# Altium footprint library Heatsink.PcbLib: 1 footprints
Each footprint in its own frame and in the unit in brackets; x right, y up, seen from the top. Pads: shape width x height; smd on the part's side, far side on the other; paste and mask are expansions set on the pad; w line width, h text height; cw(c..) or ccw(c..) is an arc to the next point about the centre after c.
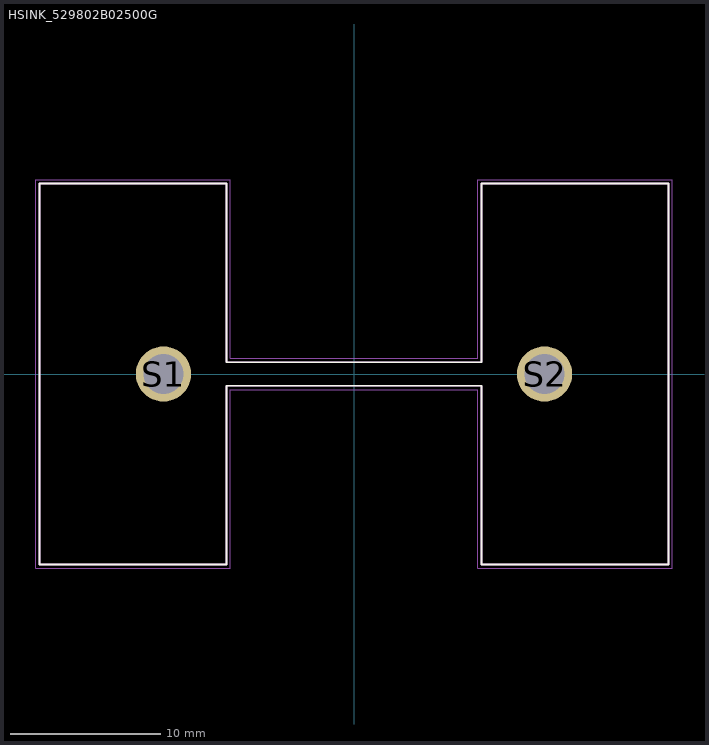
[diagram p0: the footprint, top view; thin cyan lines are the x and y axes]

## HSINK_529802B02500G [mm]
pads (2):
  round 3.686 hole 2.67: S1(-12.7,0) S2(12.7,0)
Top Overlay:
  lines w0.127: -20.955,-12.7 -20.955,12.7 -8.51,12.7 -8.51,0.785 8.51,0.785 8.51,12.7 20.955,12.7 20.955,-12.7 8.51,-12.7 8.51,-0.785 -8.51,-0.785 -8.51,-12.7 -20.955,-12.7
Mechanical 13:
  lines w0.127: -20.955,-12.7 -8.51,-12.7 -8.51,-0.785 8.51,-0.785 8.51,-12.7 20.955,-12.7 20.955,12.7 8.51,12.7 8.51,0.785 -8.51,0.785 -8.51,12.7 -20.955,12.7 -20.955,-12.7
Mechanical 15:
  lines w0.05: -21.205,-12.95 -8.26,-12.95 -8.26,-1.035 8.26,-1.035 8.26,-12.95 21.205,-12.95 21.205,12.95 8.26,12.95 8.26,1.035 -8.26,1.035 -8.26,12.95 -21.205,12.95 -21.205,-12.95
3D body "HeatsinkSTEP.STEP": height 63.5, standoff 21.44, extent -20.955,-12.827 20.955,12.573